# Altium schematic symbol library Memory.SchLib: 12 symbols
Pins are listed as number, name and electrical type; pins without a type are passive.

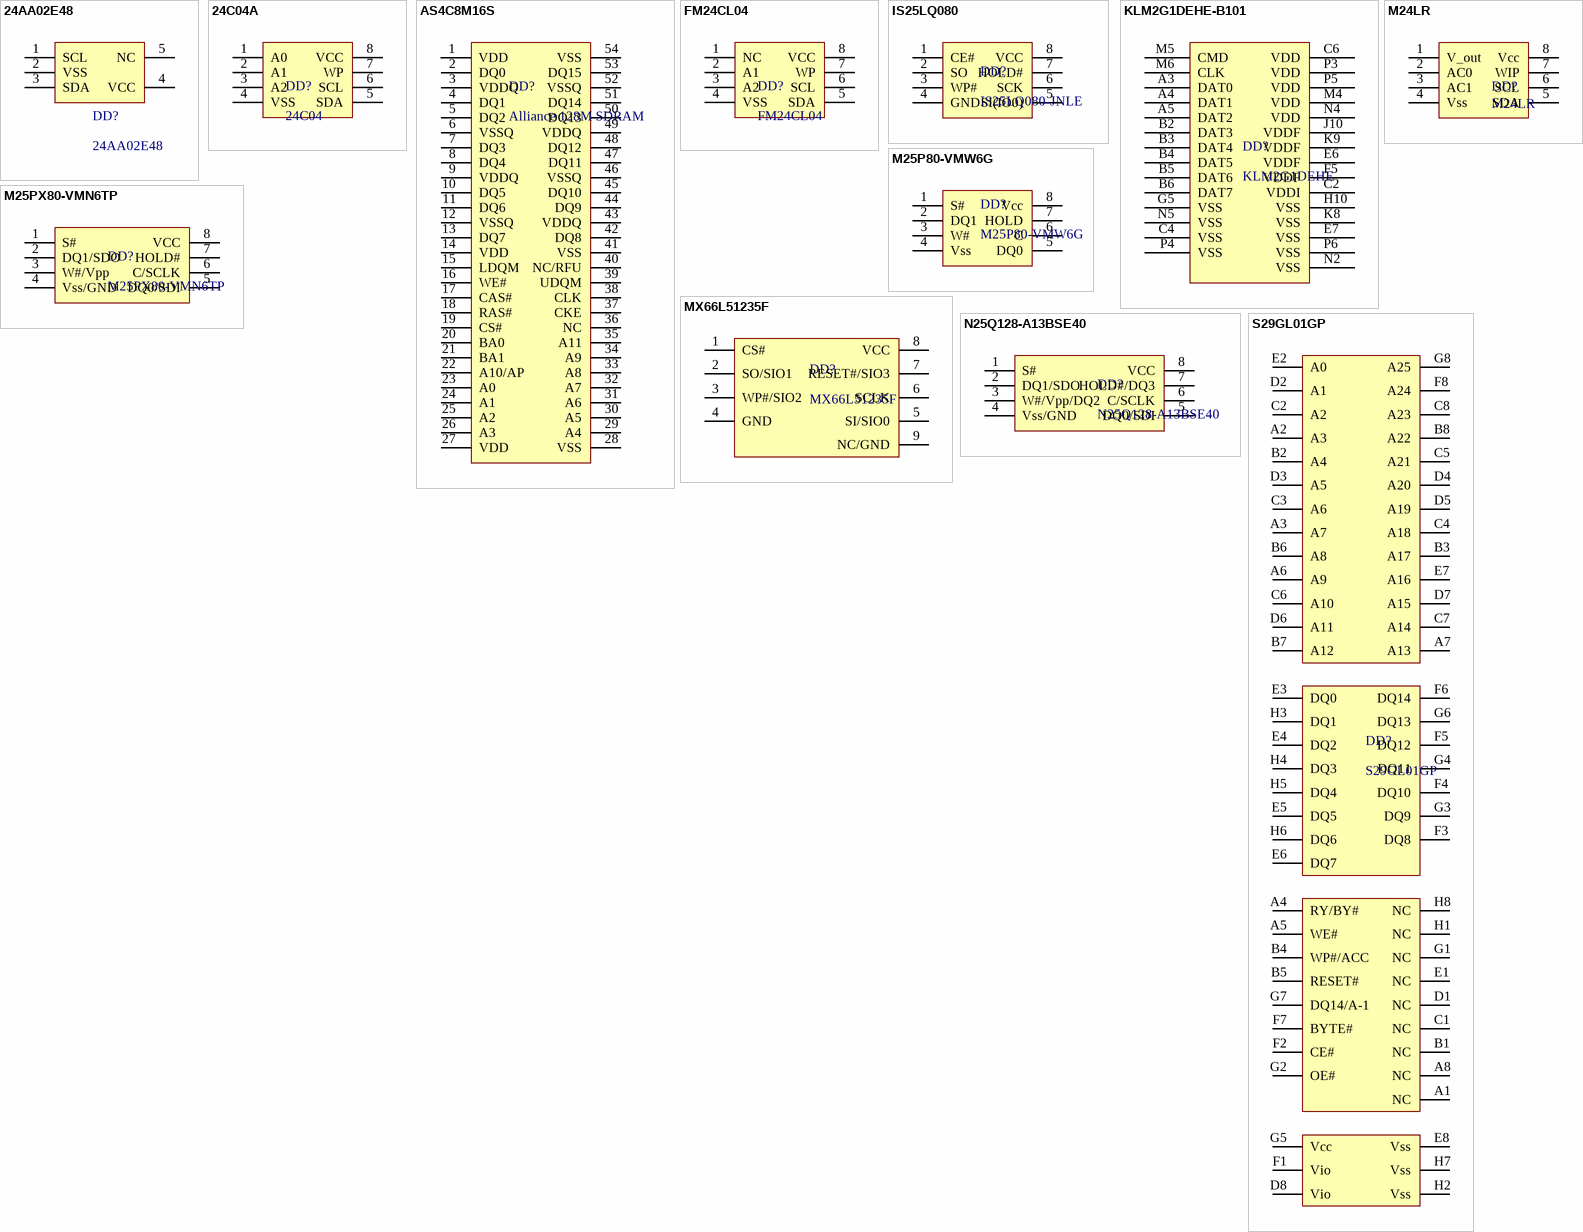
[diagram p0: symbols 24AA02E48 to S29GL01GP]

## 24AA02E48
designator DD?
I2C MAC EEPROM
footprint SOT-23-5
pins: 1 SCL, 2 VSS, 3 SDA, 4 VCC, 5 NC

## 24C04A
designator DD?, comment 24C04
I2C EEPROM
footprint SO-8
pins: 1 A0, 2 A1, 3 A2, 4 VSS, 5 SDA, 6 SCL, 7 WP, 8 VCC

## AS4C8M16S
designator DD?, comment Alliance 128M SDRAM
footprint TSOP-II-54
pins: 1 VDD, 2 DQ0, 3 VDDQ, 4 DQ1, 5 DQ2, 6 VSSQ, 7 DQ3, 8 DQ4, 9 VDDQ, 10 DQ5, 11 DQ6, 12 VSSQ, 13 DQ7, 14 VDD, 15 LDQM, 16 WE#, 17 CAS#, 18 RAS#, 19 CS#, 20 BA0, 21 BA1, 22 A10/AP, 23 A0, 24 A1, 25 A2, 26 A3, 27 VDD, 28 VSS, 29 A4, 30 A5, 31 A6, 32 A7, 33 A8, 34 A9, 35 A11, 36 NC, 37 CKE, 38 CLK, 39 UDQM, 40 NC/RFU, 41 VSS, 42 DQ8, 43 VDDQ, 44 DQ9, 45 DQ10, 46 VSSQ, 47 DQ11, 48 DQ12, 49 VDDQ, 50 DQ13, 51 DQ14, 52 VSSQ, 53 DQ15, 54 VSS

## FM24CL04
designator DD?
I2C EEPROM
footprint SO-8
pins: 1 NC, 2 A1, 3 A2, 4 VSS, 5 SDA, 6 SCL, 7 WP, 8 VCC

## IS25LQ080
designator DD?, comment IS25LQ080-JNLE
ISSI SPI FLASH memory 8 Mbit; SO-8: ...-JN; SO-8W: ...-JB
footprint SO-8
footprint SOIC-8W (Wide)
pins: 1 CE#, 2 SO, 3 WP#, 4 GND, 5 SI(IO0), 6 SCK, 7 HOLD#, 8 VCC

## KLM2G1DEHE-B101
designator DD?, comment KLM2G1DEHE
Samsung 2GB eMMC
footprint eMMC-BGA-153
pins: A3 DAT0, A4 DAT1, A5 DAT2, B2 DAT3, B3 DAT4, B4 DAT5, B5 DAT6, B6 DAT7, C2 VDDI, C4 VSS, C6 VDD, E6 VDDF, E7 VSS, F5 VDDF, G5 VSS, H10 VSS, J10 VDDF, K8 VSS, K9 VDDF, M4 VDD, M5 CMD, M6 CLK, N2 VSS, N4 VDD, N5 VSS, P3 VDD, P4 VSS, P5 VDD, P6 VSS

## M24LR
designator DD?
ST RFID EEPROM with power harvesting
footprint SO-8
footprint TSSOP-8
pins: 1 V_out, 2 AC0, 3 AC1, 4 Vss, 5 SDA, 6 SCL, 7 WIP, 8 Vcc

## M25P80-VMW6G
designator DD?
Micron 8 Mb FLASH
footprint SO-8
footprint SO-8W (Wide)
pins: 1 S#, 2 DQ1, 3 W#, 4 Vss, 5 DQ0, 6 C, 7 HOLD, 8 Vcc

## M25PX80-VMN6TP
designator DD?
Micron M25PX80-VMN6TP 8Mb SPI NOR Flash
footprint SO-8
pins: 1 S#, 2 DQ1/SDO, 3 W#/Vpp, 4 Vss/GND, 5 DQ0/SDI, 6 C/SCLK, 7 HOLD#, 8 VCC

## MX66L51235F
designator DD?
Macronix MX66L51235F NOR Flash 512Mb
footprint WSON-8 (WSON 8pin 8x6mm)
pins: 1 CS#, 2 SO/SIO1, 3 WP#/SIO2, 4 GND, 5 SI/SIO0, 6 SCLK, 7 RESET#/SIO3, 8 VCC, 9 NC/GND

## N25Q128-A13BSE40
designator DD?
Micron N25Q128-A13BSE40 128Mb SPI NOR Flash
footprint SO-8
pins: 1 S#, 2 DQ1/SDO, 3 W#/Vpp/DQ2, 4 Vss/GND, 5 DQ0/SDI, 6 C/SCLK, 7 HOLD#/DQ3, 8 VCC

## S29GL01GP
designator DD?
S29GL01GP Spansion NOR Flash 1Gbit
footprint LAA064
pins: A1 NC, A2 A3, A3 A7, A4 RY/BY#, A5 WE#, A6 A9, A7 A13, A8 NC, B1 NC, B2 A4, B3 A17, B4 WP#/ACC, B5 RESET#, B6 A8, B7 A12, B8 A22, C1 NC, C2 A2, C3 A6, C4 A18, C5 A21, C6 A10, C7 A14, C8 A23, D1 NC, D2 A1, D3 A5, D4 A20, D5 A19, D6 A11, D7 A15, D8 Vio, E1 NC, E2 A0, E3 DQ0, E4 DQ2, E5 DQ5, E6 DQ7, E7 A16, E8 Vss, F1 Vio, F2 CE#, F3 DQ8, F4 DQ10, F5 DQ12, F6 DQ14, F7 BYTE#, F8 A24, G1 NC, G2 OE#, G3 DQ9, G4 DQ11, G5 Vcc, G6 DQ13, G7 DQ14/A-1, G8 A25, H1 NC, H2 Vss, H3 DQ1, H4 DQ3, H5 DQ4, H6 DQ6, H7 Vss, H8 NC